# EAGLE library part 693021010811 (library EagleLibrary_Wuerth_Elektronik_eiCan_Communication_Connectors_v6_20150113)
WR-CRD_Micro SIM_Push & Push_w Card Detection_SMT Micro SIM Push & Push Type SMT - with Card Detection - 1.25mm Height Code:Con_I-O_COM_CRD_SIM_Micro_693021010811_693021010811 <http://katalog.we-online.de/media/images/eican/Con_I-O_COM_CRD_SIM_Micro_693021010811_pf2.jpg> Details see: http://katalog.we-online.de/en/em/693_021_010_811/693_021_010_811?m Created 2014-12-22, aslant tao 2014 (C) Würth Elektronik
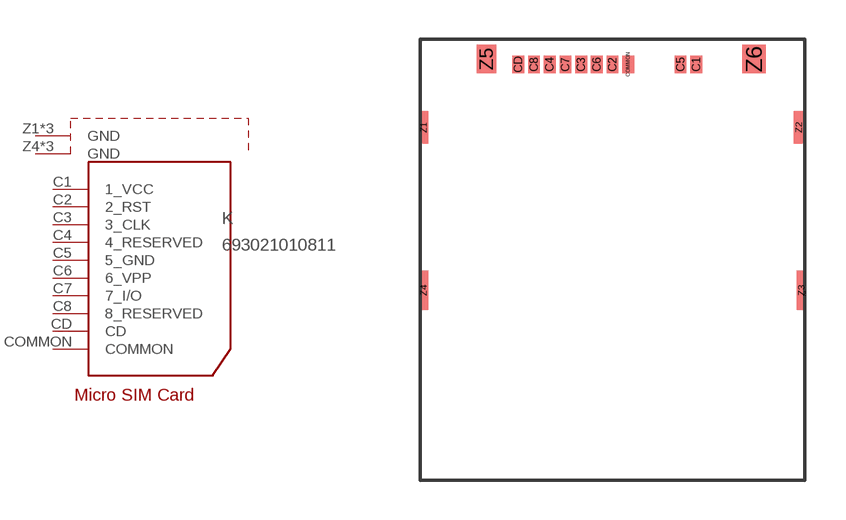
[diagram p148: symbol with the pads of 693021010811; footprint 693021010811]

Designator prefix K

## 693021010811  [693021010811]
C1  1_VCC
C2  2_RST
C3  3_CLK
C4  4_RESERVED
C5  5_GND
C6  6_VPP
C7  7_I/O
C8  8_RESERVED
CD  CD
COMMON  COMMON
Z1  GND
Z2  GND
Z3  GND
Z4  GND
Z5  GND
Z6  GND

## Footprint 693021010811 (pad centres in mm)
smd 0.45 x 0.68: C1 3.2,0; C2 0,0; C3 -1.2,0; C4 -2.4,0; C5 2.6,0; C6 -0.6,0; C7 -1.8,0; C8 -3,0; CD -3.6,0; COMMON 0.6,0
smd 0.37 x 1.25: Z1 -7.215,-2.41; Z2 7.115,-2.41
smd 0.37 x 1.5: Z3 7.215,-8.64; Z4 -7.215,-8.64
smd 0.75 x 1.1: Z5 -4.82,0.21
smd 0.9 x 1.1: Z6 5.41,0.21